# EAGLE library part M20-9980445 (library SamacSys_Parts)
M20 Header, Pin, Dil, Vertical, 4+4 W HARWIN M20 Series, 2.54mm Pitch 8 Way 2 Row Straight Pin Header, Through Hole, Solder Termination Source: Datasheet <https://componentsearchengine.com/Datasheets/1/M20-9980445.pdf>
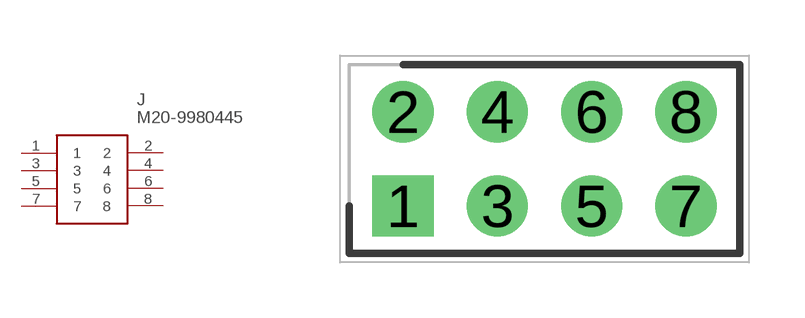
[diagram p12: symbol with the pads of HDRV8W64P254_2X4_1016X508X868P; footprint HDRV8W64P254_2X4_1016X508X868P]

Designator prefix J

## M20-9980445 (ALLIED_NUMBER: R1052696; ALLIED_PRICE-STOCK: https://www.alliedelec.com/harwin-m20-9980445/R1052696/; DESCRIPTION: M20 Header, Pin, Dil, Vertical, 4+4 W HARWIN M20 Series, 2.54mm Pitch 8 Way 2 Row Straight Pin Header, Through Hole, Solder Termination; HEIGHT: 8.68mm; MANUFACTURER_NAME: HARWIN; MANUFACTURER_PART_NUMBER: M20-9980445; MOUSER_PART_NUMBER: 855-M20-9980445; MOUSER_PRICE-STOCK: https://www.mouser.com/Search/Refine.aspx?Keyword=855-M20-9980445; RS_PART_NUMBER: 6812941P; RS_PRICE-STOCK: http://uk.rs-online.com/web/p/products/6812941P)  [HDRV8W64P254_2X4_1016X508X868P]
1  1
2  2
3  3
4  4
5  5
6  6
7  7
8  8

## Footprint HDRV8W64P254_2X4_1016X508X868P (pad centres in mm)
M20-99804
drill 1.1 pad 1.65 square: 1 0,0
drill 1.1 pad 1.65: 2 0,2.54; 3 2.54,0; 4 2.54,2.54; 5 5.08,0; 6 5.08,2.54; 7 7.62,0; 8 7.62,2.54